# EAGLE library part FPC-08WAY (library pimoroni-fpc)
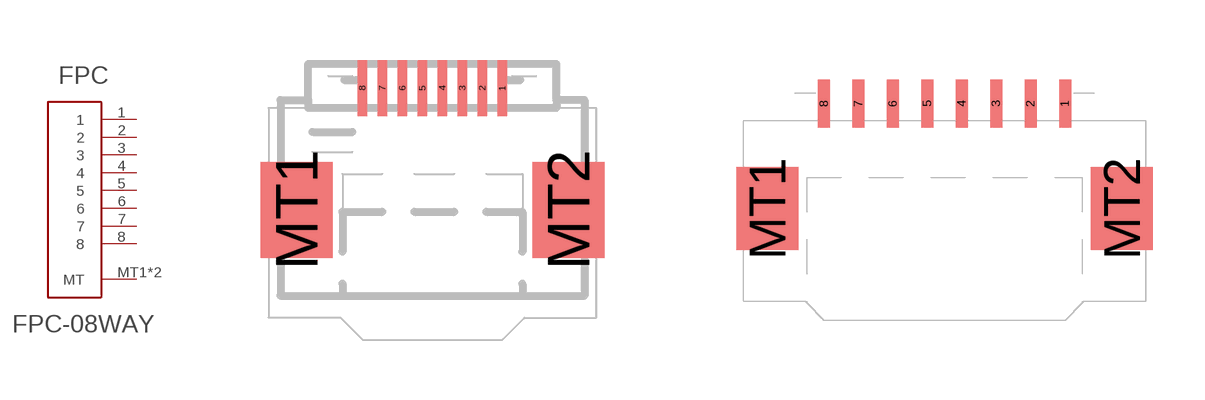
[diagram p3: symbol with the pads of FPC-0.5MM-08WAY; footprints FPC-0.5MM-08WAY, FPC-1.0MM-08WAY]

Designator prefix FPC

## FPC-08WAY0.5  [FPC-0.5MM-08WAY]
1  1
2  2
3  3
4  4
5  5
6  6
7  7
8  8
MT1  MT
MT2  MT

## FPC-08WAY1.0  [FPC-1.0MM-08WAY]
Pads as for FPC-0.5MM-08WAY

## Footprint FPC-0.5MM-08WAY (pad centres in mm)
smd 0.24 x 1.4: 1 1.75,0.7; 2 1.25,0.7; 3 0.75,0.7; 4 0.25,0.7; 5 -0.25,0.7; 6 -0.75,0.7; 7 -1.25,0.7; 8 -1.75,0.7
smd 1.8 x 2.4: MT1 -3.4,-2.35; MT2 3.4,-2.35

## Footprint FPC-1.0MM-08WAY (pad centres in mm)
smd 0.35 x 1.4: 1 3.5,0.7; 2 2.5,0.7; 3 1.5,0.7; 4 0.5,0.7; 5 -0.5,0.7; 6 -1.5,0.7; 7 -2.5,0.7; 8 -3.5,0.7
smd 1.8 x 2.4: MT1 -5.15,-2.35; MT2 5.15,-2.35